# EAGLE library part SD_CARD_HOLDER (library SD_CARD_HOLDER)
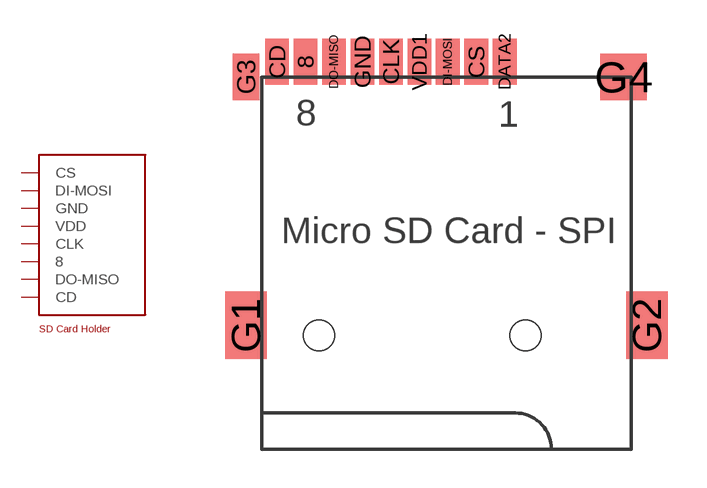
[diagram p0: symbol with the pads of SD_CARD_HOLDER; footprint SD_CARD_HOLDER]

Designator prefix -

## SD_CARD_HOLDER  [SD_CARD_HOLDER]
8  8  pwr
CD  CD
CLK  CLK
CS  CS
DI-MOSI  DI-MOSI
DO-MISO  DO-MISO
GND  GND  pwr
VDD1  VDD  pwr

## Footprint SD_CARD_HOLDER (pad centres in mm)
smd 0.914 x 1.778: 8 -5.45,10.589; CD -6.55,10.589; CLK -2.15,10.589; CS 1.15,10.589; DATA2 2.25,10.589; DI-MOSI 0.05,10.589; DO-MISO -4.35,10.589; GND -3.25,10.589; VDD1 -1.05,10.589
smd 1.6 x 2.6: G1 -7.75,0.4; G2 7.75,0.4
smd 1.022 x 1.8: G3 -7.75,10
smd 1.8 x 1.8: G4 6.85,10
hole 1.2 at 3.05,0
hole 1.2 at -4.93,0